# EAGLE library part MICRO-USB-5BF (library mcc)
Micro USB B connector
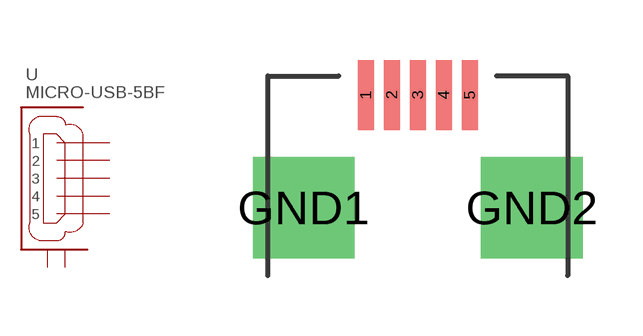
[diagram p1: symbol with the pads of MICRO-USB-5BF; footprint MICRO-USB-5BF]

Designator prefix -

## MICRO-USB-5BF  [MICRO-USB-5BF]
1  1  in
2  2  in
3  3  in
4  4  in
5  5  in
GND1  GND1
GND2  GND2

## Footprint MICRO-USB-5BF (pad centres in mm)
smd 0.4 x 1.75: 1 -1.3,4.525; 2 -0.65,4.525; 3 0,4.525; 4 0.65,4.525; 5 1.3,4.525
drill 1.2 pad 2.54 square: GND1 -2.855,1.7; GND2 2.855,1.7